# Altium schematic symbol library Header-254-single-vertical-M.SchLib: 22 symbols
Pins are listed as number, name and electrical type; pins without a type are passive.

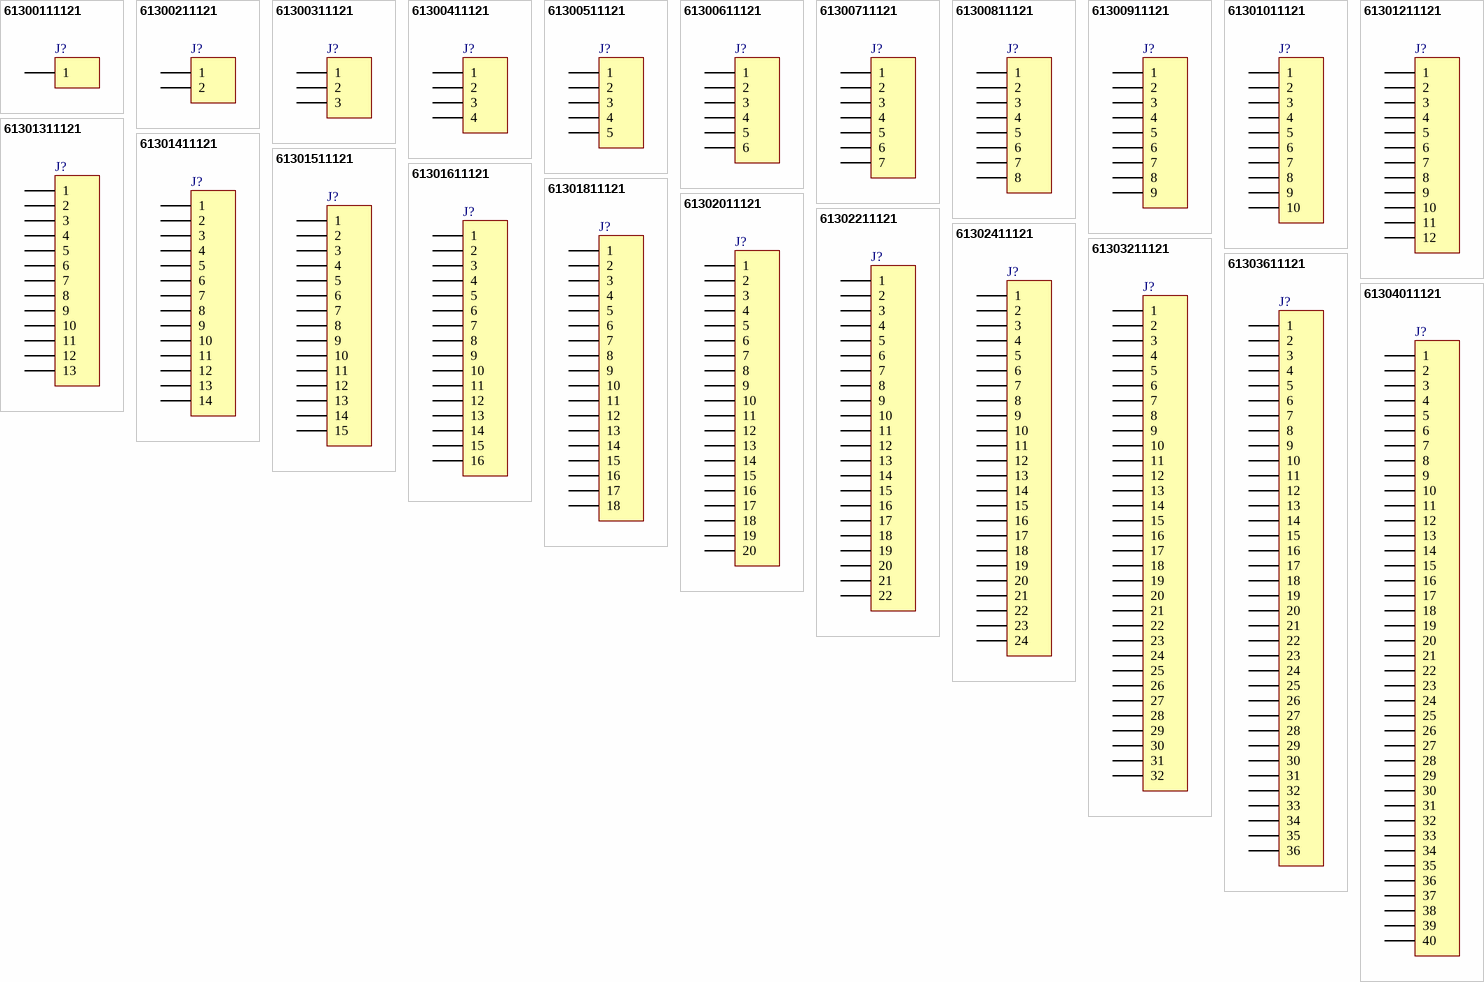
[diagram p0: symbols 61300111121 to 61304011121]

## 61300111121
designator J?, comment 01p  (value not drawn)
WR-PHD 2.54 mm THT Pin Header, 01p; Part Number: 61300111121; Vendor: Wurth Elektronik; Value: 01p
footprint 61300111121
pins: 1

## 61300211121
designator J?, comment 02p  (value not drawn)
WR-PHD 2.54 mm THT Pin Header, 02p; Part Number: 61300211121; Vendor: Wurth Elektronik; Value: 02p
footprint 61300211121
pins: 1, 2

## 61300311121
designator J?, comment 03p  (value not drawn)
WR-PHD 2.54 mm THT Pin Header, 03p; Part Number: 61300311121; Vendor: Wurth Elektronik; Value: 03p
footprint 61300311121
pins: 1, 2, 3

## 61300411121
designator J?, comment 04p  (value not drawn)
WR-PHD 2.54 mm THT Pin Header, 04p; Part Number: 61300411121; Vendor: Wurth Elektronik; Value: 04p
footprint 61300411121
pins: 1, 2, 3, 4

## 61300511121
designator J?, comment 05p  (value not drawn)
WR-PHD 2.54 mm THT Pin Header, 05p; Part Number: 61300511121; Vendor: Wurth Elektronik; Value: 05p
footprint 61300511121
pins: 1, 2, 3, 4, 5

## 61300611121
designator J?, comment 06p  (value not drawn)
WR-PHD 2.54 mm THT Pin Header, 06p; Part Number: 61300611121; Vendor: Wurth Elektronik; Value: 06p
footprint 61300611121
pins: 1, 2, 3, 4, 5, 6

## 61300711121
designator J?, comment 07p  (value not drawn)
WR-PHD 2.54 mm THT Pin Header, 07p; Part Number: 61300711121; Vendor: Wurth Elektronik; Value: 07p
footprint 61300711121
pins: 1, 2, 3, 4, 5, 6, 7

## 61300811121
designator J?, comment 08p  (value not drawn)
WR-PHD 2.54 mm THT Pin Header, 08p; Part Number: 61300811121; Vendor: Wurth Elektronik; Value: 08p
footprint 61300811121
pins: 1, 2, 3, 4, 5, 6, 7, 8

## 61300911121
designator J?, comment 09p  (value not drawn)
WR-PHD 2.54 mm THT Pin Header, 09p; Part Number: 61300911121; Vendor: Wurth Elektronik; Value: 09p
footprint 61300911121
pins: 1, 2, 3, 4, 5, 6, 7, 8, 9

## 61301011121
designator J?, comment 10p  (value not drawn)
WR-PHD 2.54 mm THT Pin Header, 10p; Part Number: 61301011121; Vendor: Wurth Elektronik; Value: 10p
footprint 61301011121
pins: 1, 2, 3, 4, 5, 6, 7, 8, 9, 10

## 61301211121
designator J?, comment 12p  (value not drawn)
WR-PHD 2.54 mm THT Pin Header, 12p; Part Number: 61301211121; Vendor: Wurth Elektronik; Value: 12p
footprint 61301211121
pins: 1, 2, 3, 4, 5, 6, 7, 8, 9, 10, 11, 12

## 61301311121
designator J?, comment 13p  (value not drawn)
WR-PHD 2.54 mm THT Pin Header, 13p; Part Number: 61301311121; Vendor: Wurth Elektronik; Value: 13p
footprint 61301311121
pins: 1, 2, 3, 4, 5, 6, 7, 8, 9, 10, 11, 12, 13

## 61301411121
designator J?, comment 14p  (value not drawn)
WR-PHD 2.54 mm THT Pin Header, 14p; Part Number: 61301411121; Vendor: Wurth Elektronik; Value: 14p
footprint 61301411121
pins: 1, 2, 3, 4, 5, 6, 7, 8, 9, 10, 11, 12, 13, 14

## 61301511121
designator J?, comment 15p  (value not drawn)
WR-PHD 2.54 mm THT Pin Header, 15p; Part Number: 61301511121; Vendor: Wurth Elektronik; Value: 15p
footprint 61301511121
pins: 1, 2, 3, 4, 5, 6, 7, 8, 9, 10, 11, 12, 13, 14, 15

## 61301611121
designator J?, comment 16p  (value not drawn)
WR-PHD 2.54 mm THT Pin Header, 16p; Part Number: 61301611121; Vendor: Wurth Elektronik; Value: 16p
footprint 61301611121
pins: 1, 2, 3, 4, 5, 6, 7, 8, 9, 10, 11, 12, 13, 14, 15, 16

## 61301811121
designator J?, comment 18p  (value not drawn)
WR-PHD 2.54 mm THT Pin Header, 18p; Part Number: 61301811121; Vendor: Wurth Elektronik; Value: 18p
footprint 61301811121
pins: 1, 2, 3, 4, 5, 6, 7, 8, 9, 10, 11, 12, 13, 14, 15, 16, 17, 18

## 61302011121
designator J?, comment 20p  (value not drawn)
WR-PHD 2.54 mm THT Pin Header, 20p; Part Number: 61302011121; Vendor: Wurth Elektronik; Value: 20p
footprint 61302011121
pins: 1, 2, 3, 4, 5, 6, 7, 8, 9, 10, 11, 12, 13, 14, 15, 16, 17, 18, 19, 20

## 61302211121
designator J?, comment 22p  (value not drawn)
WR-PHD 2.54 mm THT Pin Header, 22p; Part Number: 61302211121; Vendor: Wurth Elektronik; Value: 22p
footprint 61302211121
pins: 1, 2, 3, 4, 5, 6, 7, 8, 9, 10, 11, 12, 13, 14, 15, 16, 17, 18, 19, 20, 21, 22

## 61302411121
designator J?, comment 24p  (value not drawn)
WR-PHD 2.54 mm THT Pin Header, 24p; Part Number: 61302411121; Vendor: Wurth Elektronik; Value: 24p
footprint 61302411121
pins: 1, 2, 3, 4, 5, 6, 7, 8, 9, 10, 11, 12, 13, 14, 15, 16, 17, 18, 19, 20, 21, 22, 23, 24

## 61303211121
designator J?, comment 32p  (value not drawn)
WR-PHD 2.54 mm THT Pin Header, 32p; Part Number: 61303211121; Vendor: Wurth Elektronik; Value: 32p
footprint 61303211121
pins: 1, 2, 3, 4, 5, 6, 7, 8, 9, 10, 11, 12, 13, 14, 15, 16, 17, 18, 19, 20, 21, 22, 23, 24, 25, 26, 27, 28, 29, 30, 31, 32

## 61303611121
designator J?, comment 36p  (value not drawn)
WR-PHD 2.54 mm THT Pin Header, 36p; Part Number: 61303611121; Vendor: Wurth Elektronik; Value: 36p
footprint 61303611121
pins: 1, 2, 3, 4, 5, 6, 7, 8, 9, 10, 11, 12, 13, 14, 15, 16, 17, 18, 19, 20, 21, 22, 23, 24, 25, 26, 27, 28, 29, 30, 31, 32, 33, 34, 35, 36

## 61304011121
designator J?, comment 40p  (value not drawn)
WR-PHD 2.54 mm THT Pin Header, 40p; Part Number: 61304011121; Vendor: Wurth Elektronik; Value: 40p
footprint 61304011121
pins: 1, 2, 3, 4, 5, 6, 7, 8, 9, 10, 11, 12, 13, 14, 15, 16, 17, 18, 19, 20, 21, 22, 23, 24, 25, 26, 27, 28, 29, 30, 31, 32, 33, 34, 35, 36, 37, 38, 39, 40